# Altium footprint library HVSSOP-8(3.0X3.0).PcbLib: 1 footprints
Each footprint in its own frame and in the unit in brackets; x right, y up, seen from the top. Pads: shape width x height; smd on the part's side, far side on the other; paste and mask are expansions set on the pad; w line width, h text height; cw(c..) or ccw(c..) is an arc to the next point about the centre after c.
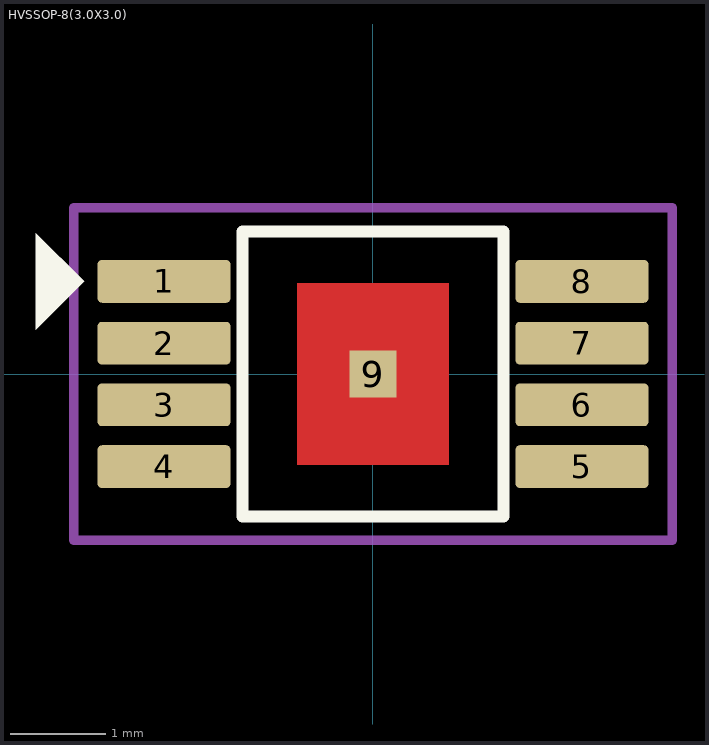
[diagram p0: the footprint, top view; thin cyan lines are the x and y axes]

## HVSSOP-8(3.0X3.0) [mm]
pads (9):
  rrect20% 1.4x0.45 smd mask+0: 1(-2.2,0.975) 2(-2.2,0.325) 3(-2.2,-0.325) 4(-2.2,-0.975) 5(2.2,-0.975) 6(2.2,-0.325) 7(2.2,0.325) 8(2.2,0.975)
  rect 0.5x0.5 smd paste-1 mask+0: 9(0,0)
Top Layer:
  rectangle: -0.8,-0.96 0.8,0.96
Top Overlay:
  region: -3.042,0.975 -3.55,1.483 -3.55,0.467
  lines w0.127: -1.375,-1.5 -1.375,1.5 1.375,1.5 1.375,-1.5 -1.375,-1.5
Top Solder:
  drawing of 9 lines, arcs and shapes, not listed
Top Courtyard:
  lines w0.1: -3.15,-1.75 3.15,-1.75 3.15,1.75 -3.15,1.75 -3.15,-1.75
3D body "step_temp.STEP": height 1.1, standoff 0, extent -2.45,-1.5 2.45,1.5